# Altium integrated library ON Semi Schottky Diodes & Schottky Rectifiers.IntLib: 755 symbols (part 2 of 17)
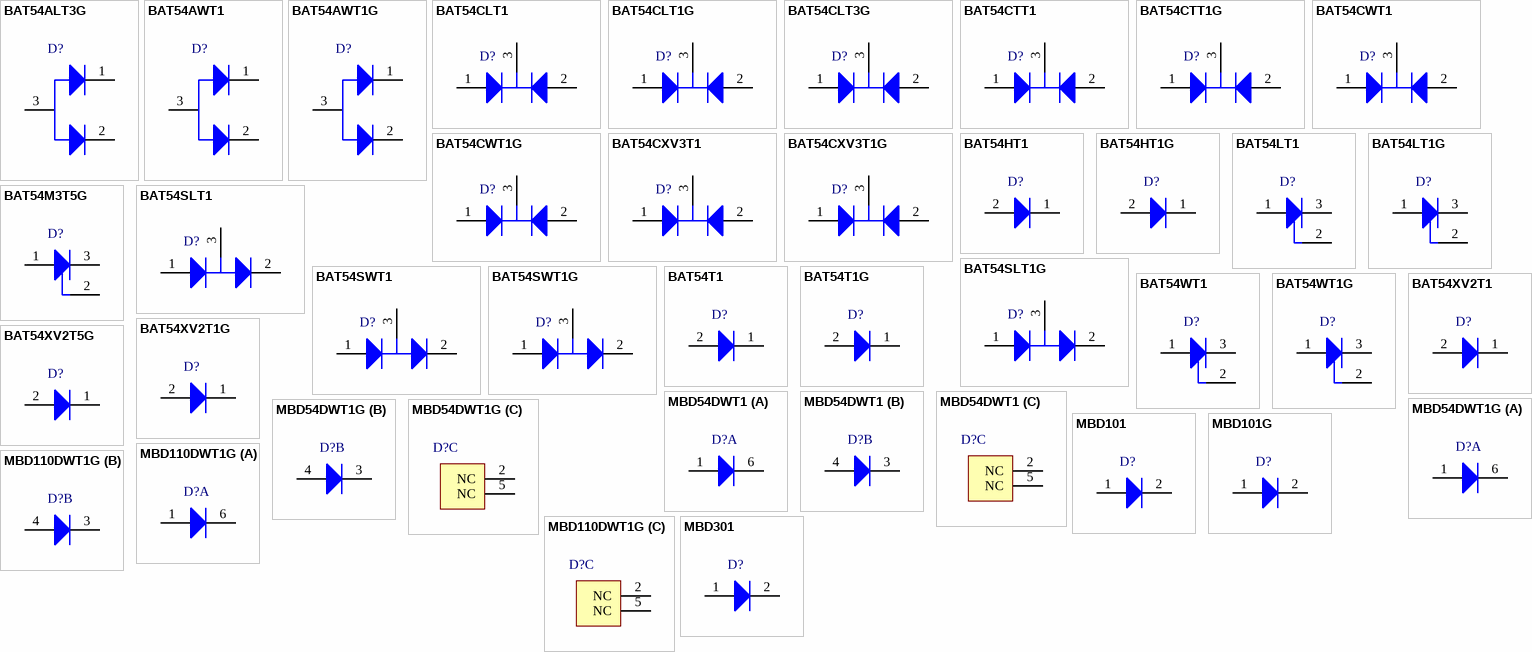
[diagram p20: symbols BAT54ALT3G to MBD301]

## BAT54CTT1G
designator D?
Dual Series Cathode Schottky Barrier Diodes, 3-Pin SC-75, Pb-Free, Tape and Reel; Manufacturer: On Semiconductor; PartNumber: BAT54CTT1G; Configuration: Common Cathode; IFSM Max (A): 0.6; trr Max (ns): 5; DatasheetVersion: Rev. 4; PackageVersion: Rev. F, 07/2005; PackageReference: SC-75-3-463-01; PackageDescription: 3-Pin Small Outline Transistor, Body 1.6 x 0.8 mm, Pitch 0.5 mm; Supplier 1: Digi-Key; Supplier Part Number 1: BAT54CTT1GOSTR-ND; Supplier 2: Digi-Key; Supplier Part Number 2: BAT54CTT1GOSCT-ND; Supplier 3: Digi-Key; Supplier Part Number 3: BAT54CTT1GOSDKR-ND; Supplier 4: Farnell; Supplier Part Number 4: 2369342; Supplier 5: Newark; Supplier Part Number 5: 41K9584; Supplier 6: Newark; Supplier Part Number 6: 10N9691; Supplier 7: Mouser; Supplier Part Number 7: 863-BAT54CTT1G; Packing: Tape and Reel; RoHS: TRUE; Mounting Technology: Surface Mount; ComponentLink1Description: Manufacturer URL; ComponentLink1URL: http://www.onsemi.com/; ComponentLink2Description: Datasheet; ComponentLink2URL: http://www.onsemi.cn/pub_link/Collateral/BAT54CTT1-D.PDF; ComponentLink3Description: Package Specification; ComponentLink3URL: http://www.onsemi.com/pub_link/Collateral/463-01.PDF
footprint ONSC-SC-75-3-463-01_V (SOT23, 3-Leads, Body 1.6x0.8mm, Pitch 0.5mm)
pins: 1 A1, 2 A2, 3 K

## BAT54CWT1
designator D?
Dual Series Cathode Schottky Barrier Diodes, 3-Pin SOT-323, Tape and Reel; Manufacturer: On Semiconductor; PartNumber: BAT54CWT1; Configuration: Common Cathode; IFSM Max (A): 0.6; trr Max (ns): 5; DatasheetVersion: Rev. 7; PackageVersion: Rev. N, 11/2008; PackageReference: SOT-323-3-419-04; PackageDescription: 3-Pin Small Outline Transistor, Body 2 x 1.25 mm, Pitch 0.65 mm; Supplier 1: Digi-Key; Supplier Part Number 1: BAT54CWT1-ND; Packing: Tape and Reel; RoHS: FALSE; Mounting Technology: Surface Mount; ComponentLink1Description: Manufacturer URL; ComponentLink1URL: http://www.onsemi.com/; ComponentLink2Description: Datasheet; ComponentLink2URL: http://www.onsemi.cn/pub_link/Collateral/BAT54CWT1-D.PDF; ComponentLink3Description: Package Specification; ComponentLink3URL: http://www.onsemi.com/pub_link/Collateral/419-04.PDF
footprint ONSC-SOT-323-3-419-04_V (SOT23, 3-Leads, Body 2x1.25mm, Pitch 0.65mm)
pins: 1 A1, 2 A2, 3 K

## BAT54CWT1G
designator D?
Dual Series Cathode Schottky Barrier Diodes, 3-Pin SOT-323, Pb-Free, Tape and Reel; Manufacturer: On Semiconductor; PartNumber: BAT54CWT1G; Configuration: Common Cathode; IFSM Max (A): 0.6; trr Max (ns): 5; DatasheetVersion: Rev. 7; PackageVersion: Rev. N, 11/2008; PackageReference: SOT-323-3-419-04; PackageDescription: 3-Pin Small Outline Transistor, Body 2 x 1.25 mm, Pitch 0.65 mm; Supplier 1: Digi-Key; Supplier Part Number 1: BAT54CWT1GOSTR-ND; Supplier 2: Digi-Key; Supplier Part Number 2: BAT54CWT1GOSCT-ND; Supplier 3: Digi-Key; Supplier Part Number 3: BAT54CWT1GOSDKR-ND; Supplier 4: Farnell; Supplier Part Number 4: 2317420; Supplier 5: Farnell; Supplier Part Number 5: 1885830; Supplier 6: Newark; Supplier Part Number 6: 10N9692; Supplier 7: Newark; Supplier Part Number 7: 45J0561; Supplier 8: Mouser; Supplier Part Number 8: 863-BAT54CWT1G; Packing: Tape and Reel; RoHS: TRUE; Mounting Technology: Surface Mount; ComponentLink1Description: Manufacturer URL; ComponentLink1URL: http://www.onsemi.com/; ComponentLink2Description: Datasheet; ComponentLink2URL: http://www.onsemi.cn/pub_link/Collateral/BAT54CWT1-D.PDF; ComponentLink3Description: Package Specification; ComponentLink3URL: http://www.onsemi.com/pub_link/Collateral/419-04.PDF
footprint ONSC-SOT-323-3-419-04_V (SOT23, 3-Leads, Body 2x1.25mm, Pitch 0.65mm)
pins: 1 A1, 2 A2, 3 K

## BAT54CXV3T1
designator D?
Dual Series Cathode Schottky Barrier Diodes, 3-Pin SC-89, Tape and Reel; Manufacturer: On Semiconductor; PartNumber: BAT54CXV3T1; Configuration: Common Cathode; IFSM Max (A): 0.6; trr Max (ns): 5; DatasheetVersion: Rev. 2; PackageVersion: Rev. C, 07/2003; PackageReference: SC-89-3-463C-02; PackageDescription: 3-Pin Small Outline Transistor, Body 1.6 x 0.85 mm, Pitch 0.5 mm; Supplier 1: Mouser; Supplier Part Number 1: 863-BAT54CXV3T1; Packing: Tape and Reel; RoHS: FALSE; Mounting Technology: Surface Mount; ComponentLink1Description: Manufacturer URL; ComponentLink1URL: http://www.onsemi.com/; ComponentLink2Description: Datasheet; ComponentLink2URL: http://www.onsemi.cn/pub_link/Collateral/BAT54CXV3-D.PDF; ComponentLink3Description: Package Specification; ComponentLink3URL: http://www.onsemi.com/pub_link/Collateral/463C-02.PDF
footprint ONSC-SC-89-3-463C-02_V (SOT23, 3-Leads, Body 1.6x0.85mm, Pitch 0.5mm)
pins: 1 A1, 2 A2, 3 K

## BAT54CXV3T1G
designator D?
Dual Series Cathode Schottky Barrier Diodes, 3-Pin SC-89, Pb-Free, Tape and Reel; Manufacturer: On Semiconductor; PartNumber: BAT54CXV3T1G; Configuration: Common Cathode; IFSM Max (A): 0.6; trr Max (ns): 5; DatasheetVersion: Rev. 2; PackageVersion: Rev. C, 07/2003; PackageReference: SC-89-3-463C-02; PackageDescription: 3-Pin Small Outline Transistor, Body 1.6 x 0.85 mm, Pitch 0.5 mm; Supplier 1: Farnell; Supplier Part Number 1: 1887067; Supplier 2: Newark; Supplier Part Number 2: 09R9362; Supplier 3: Mouser; Supplier Part Number 3: 863-BAT54CXV3T1G; Packing: Tape and Reel; RoHS: TRUE; Mounting Technology: Surface Mount; ComponentLink1Description: Manufacturer URL; ComponentLink1URL: http://www.onsemi.com/; ComponentLink2Description: Datasheet; ComponentLink2URL: http://www.onsemi.cn/pub_link/Collateral/BAT54CXV3-D.PDF; ComponentLink3Description: Package Specification; ComponentLink3URL: http://www.onsemi.com/pub_link/Collateral/463C-02.PDF
footprint ONSC-SC-89-3-463C-02_V (SOT23, 3-Leads, Body 1.6x0.85mm, Pitch 0.5mm)
pins: 1 A1, 2 A2, 3 K

## BAT54HT1
designator D?
Schottky Barrier Diode, 2-Pin SOD-323, Tape and Reel; Manufacturer: On Semiconductor; PartNumber: BAT54HT1; Configuration: Single; IFSM Max (A): 0.6; trr Max (ns): 5; DatasheetVersion: Rev. 6; PackageVersion: Rev. H, 03/2007; PackageReference: SOD-323-2-477-02; PackageDescription: 2-Pin SOD, Body 1.7 x 1.25 mm; Supplier 1: Digi-Key; Supplier Part Number 1: BAT54HT1OSCT-ND; Packing: Tape and Reel; RoHS: TRUE; Mounting Technology: Surface Mount; ComponentLink1Description: Manufacturer URL; ComponentLink1URL: http://www.onsemi.com/; ComponentLink2Description: Datasheet; ComponentLink2URL: http://www.onsemi.cn/pub_link/Collateral/BAT54HT1-D.PDF; ComponentLink3Description: Package Specification; ComponentLink3URL: http://www.onsemi.com/pub_link/Collateral/477-02.PDF.1
footprint ONSC-SOD-323-2-477-02_V (SOD, 2-Leads, Body 1.7x1.25mm)
pins: 1 K, 2 A

## BAT54HT1G
designator D?
Schottky Barrier Diode, 2-Pin SOD-323, Pb-Free, Tape and Reel; Manufacturer: On Semiconductor; PartNumber: BAT54HT1G; Configuration: Single; IFSM Max (A): 0.6; trr Max (ns): 5; DatasheetVersion: Rev. 6; PackageVersion: Rev. H, 03/2007; PackageReference: SOD-323-2-477-02; PackageDescription: 2-Pin SOD, Body 1.7 x 1.25 mm; Supplier 1: Digi-Key; Supplier Part Number 1: BAT54HT1GOSTR-ND; Supplier 2: Digi-Key; Supplier Part Number 2: BAT54HT1GOSCT-ND; Supplier 3: Digi-Key; Supplier Part Number 3: BAT54HT1GOSDKR-ND; Supplier 4: Farnell; Supplier Part Number 4: 1459033RL; Supplier 5: Farnell; Supplier Part Number 5: 1459033; Supplier 6: Newark; Supplier Part Number 6: 83K0937; Supplier 7: Newark; Supplier Part Number 7: 83H6419; Supplier 8: Newark; Supplier Part Number 8: 28X7207; Supplier 9: Mouser; Supplier Part Number 9: 863-BAT54HT1G; Packing: Tape and Reel; RoHS: TRUE; Mounting Technology: Surface Mount; ComponentLink1Description: Manufacturer URL; ComponentLink1URL: http://www.onsemi.com/; ComponentLink2Description: Datasheet; ComponentLink2URL: http://www.onsemi.cn/pub_link/Collateral/BAT54HT1-D.PDF; ComponentLink3Description: Package Specification; ComponentLink3URL: http://www.onsemi.com/pub_link/Collateral/477-02.PDF.1
footprint ONSC-SOD-323-2-477-02_V (SOD, 2-Leads, Body 1.7x1.25mm)
pins: 1 K, 2 A

## BAT54LT1
designator D?
Schottky Barrier Diode, 3-Pin SOT-23, Tape and Reel; Manufacturer: On Semiconductor; PartNumber: BAT54LT1; Configuration: Single; IFSM Max (A): 0.6; trr Max (ns): 5; DatasheetVersion: Rev. 12; PackageVersion: Rev. AP, 11/2009; PackageReference: SOT-23-3-318-08; PackageDescription: 3-Pin Small Outline Transistor, Body 2.92 x 1.3 mm, Pitch 0.95 mm; Supplier 1: Digi-Key; Supplier Part Number 1: BAT54LT1OSCT-ND; Packing: Tape and Reel; RoHS: FALSE; Mounting Technology: Surface Mount; ComponentLink1Description: Manufacturer URL; ComponentLink1URL: http://www.onsemi.com/; ComponentLink2Description: Datasheet; ComponentLink2URL: http://www.onsemi.cn/pub_link/Collateral/BAT54LT1-D.PDF; ComponentLink3Description: Package Specification; ComponentLink3URL: http://www.onsemi.cn/pub_link/Collateral/318-08.PDF
footprint ONSC-SOT-23-3-318-08_V (SOT23, 3-Leads, Body 2.92x1.3mm, Pitch 0.95mm)
pins: 1 A, 2 NC, 3 K

## BAT54LT1G
designator D?
Schottky Barrier Diode, 3-Pin SOT-23, Pb-Free, Tape and Reel; Manufacturer: On Semiconductor; PartNumber: BAT54LT1G; Configuration: Single; IFSM Max (A): 0.6; trr Max (ns): 5; DatasheetVersion: Rev. 12; PackageVersion: Rev. AP, 11/2009; PackageReference: SOT-23-3-318-08; PackageDescription: 3-Pin Small Outline Transistor, Body 2.92 x 1.3 mm, Pitch 0.95 mm; Supplier 1: Digi-Key; Supplier Part Number 1: BAT54LT1GOSTR-ND; Supplier 2: Digi-Key; Supplier Part Number 2: BAT54LT1GOSCT-ND; Supplier 3: Digi-Key; Supplier Part Number 3: BAT54LT1GOSDKR-ND; Supplier 4: Farnell; Supplier Part Number 4: 1431113; Supplier 5: Farnell; Supplier Part Number 5: 1431113RL; Supplier 6: Farnell; Supplier Part Number 6: 2370805; Supplier 7: Newark; Supplier Part Number 7: 67R1281; Supplier 8: Newark; Supplier Part Number 8: 88H4553; Supplier 9: Mouser; Supplier Part Number 9: 863-BAT54LT1G; Packing: Tape and Reel; RoHS: TRUE; Mounting Technology: Surface Mount; ComponentLink1Description: Manufacturer URL; ComponentLink1URL: http://www.onsemi.com/; ComponentLink2Description: Datasheet; ComponentLink2URL: http://www.onsemi.cn/pub_link/Collateral/BAT54LT1-D.PDF; ComponentLink3Description: Package Specification; ComponentLink3URL: http://www.onsemi.cn/pub_link/Collateral/318-08.PDF
footprint ONSC-SOT-23-3-318-08_V (SOT23, 3-Leads, Body 2.92x1.3mm, Pitch 0.95mm)
pins: 1 A, 2 NC, 3 K

## BAT54M3T5G
designator D?
Schottky Barrier Diode, 3-Pin SOT-723, Pb-Free, Tape and Reel; Manufacturer: On Semiconductor; PartNumber: BAT54M3T5G; Configuration: Single; IFSM Max (A): 0.6; trr Max (ns): 5; DatasheetVersion: Rev. 0; PackageVersion: Rev. C, 08/2006; PackageReference: SOT-723-3-631AA-01_C; PackageDescription: 3-Pin SOT223, Body 0.8 x 1.2 mm, Pitch 0.4 mm; Supplier 1: Newark; Supplier Part Number 1: 05R9023; Supplier 2: Mouser; Supplier Part Number 2: 863-BAT54M3T5G; Packing: Tape and Reel; RoHS: TRUE; Mounting Technology: Surface Mount; ComponentLink1Description: Manufacturer URL; ComponentLink1URL: http://www.onsemi.com/; ComponentLink2Description: Datasheet; ComponentLink2URL: http://www.onsemi.cn/pub_link/Collateral/BAT54M3-D.PDF; ComponentLink3Description: Package Specification; ComponentLink3URL: http://www.onsemi.cn/pub_link/Collateral/BAT54M3-D.PDF
footprint ONSC-SOT-723-3-631AA-01_C_V (SOT23, 3-Leads, Body 1.25x0.85mm, Pitch 0.4mm)
pins: 1 A, 2 NC, 3 K

## BAT54SLT1
designator D?
Dual Series Schottky Barrier Diodes, 3-Pin SOT-23, Tape and Reel; Manufacturer: On Semiconductor; PartNumber: BAT54SLT1; IFSM Max (A): 0.6; trr Max (ns): 5; DatasheetVersion: Rev. 15; PackageVersion: Rev. AP, 11/2009; PackageReference: SOT-23-3-318-08; PackageDescription: 3-Pin Small Outline Transistor, Body 2.92 x 1.3 mm, Pitch 0.95 mm; Supplier 1: Digi-Key; Supplier Part Number 1: BAT54SLT1OSCT-ND; Configuration: Dual; Packing: Tape and Reel; RoHS: FALSE; Mounting Technology: Surface Mount; ComponentLink1Description: Manufacturer URL; ComponentLink1URL: http://www.onsemi.com/; ComponentLink2Description: Datasheet; ComponentLink2URL: http://www.onsemi.cn/pub_link/Collateral/BAT54SLT1-D.PDF; ComponentLink3Description: Package Specification; ComponentLink3URL: http://www.onsemi.cn/pub_link/Collateral/318-08.PDF
footprint ONSC-SOT-23-3-318-08_V (SOT23, 3-Leads, Body 2.92x1.3mm, Pitch 0.95mm)
pins: 1 A, 2 K, 3 K/A

## BAT54SLT1G
designator D?
Dual Series Schottky Barrier Diodes, 3-Pin SOT-23, Pb-Free, Tape and Reel; Manufacturer: On Semiconductor; PartNumber: BAT54SLT1G; IFSM Max (A): 0.6; trr Max (ns): 5; DatasheetVersion: Rev. 15; PackageVersion: Rev. AP, 11/2009; PackageReference: SOT-23-3-318-08; PackageDescription: 3-Pin Small Outline Transistor, Body 2.92 x 1.3 mm, Pitch 0.95 mm; Supplier 1: Farnell; Supplier Part Number 1: 1431114; Supplier 2: Farnell; Supplier Part Number 2: 1431114RL; Supplier 3: Farnell; Supplier Part Number 3: 2317668; Supplier 4: Newark; Supplier Part Number 4: 67R1282; Supplier 5: Newark; Supplier Part Number 5: 83H6420; Supplier 6: Mouser; Supplier Part Number 6: 863-BAT54SLT1G; Configuration: Dual; Packing: Tape and Reel; RoHS: TRUE; Mounting Technology: Surface Mount; ComponentLink1Description: Manufacturer URL; ComponentLink1URL: http://www.onsemi.com/; ComponentLink2Description: Datasheet; ComponentLink2URL: http://www.onsemi.cn/pub_link/Collateral/BAT54SLT1-D.PDF; ComponentLink3Description: Package Specification; ComponentLink3URL: http://www.onsemi.cn/pub_link/Collateral/318-08.PDF
footprint ONSC-SOT-23-3-318-08_V (SOT23, 3-Leads, Body 2.92x1.3mm, Pitch 0.95mm)
pins: 1 A, 2 K, 3 K/A

## BAT54SWT1
designator D?
Dual Series Schottky Barrier Diodes, 3-Pin SOT-323, Tape and Reel; Manufacturer: On Semiconductor; PartNumber: BAT54SWT1; IFSM Max (A): 0.6; trr Max (ns): 5; DatasheetVersion: Rev. 10; PackageVersion: Rev. N, 11/2008; PackageReference: SOT-323-3-419-04; PackageDescription: 3-Pin Small Outline Transistor, Body 2 x 1.25 mm, Pitch 0.65 mm; Supplier 1: Digi-Key; Supplier Part Number 1: BAT54SWT1OSCT-ND; Configuration: Dual; Packing: Tape and Reel; RoHS: FALSE; Mounting Technology: Surface Mount; ComponentLink1Description: Manufacturer URL; ComponentLink1URL: http://www.onsemi.com/; ComponentLink2Description: Datasheet; ComponentLink2URL: http://www.onsemi.cn/pub_link/Collateral/BAT54SWT1-D.PDF; ComponentLink3Description: Package Specification; ComponentLink3URL: http://www.onsemi.com/pub_link/Collateral/419-04.PDF
footprint ONSC-SOT-323-3-419-04_V (SOT23, 3-Leads, Body 2x1.25mm, Pitch 0.65mm)
pins: 1 A, 2 K, 3 K/A

## BAT54SWT1G
designator D?
Dual Series Schottky Barrier Diodes, 3-Pin SOT-323, Pb-Free, Tape and Reel; Manufacturer: On Semiconductor; PartNumber: BAT54SWT1G; IFSM Max (A): 0.6; trr Max (ns): 5; DatasheetVersion: Rev. 10; PackageVersion: Rev. N, 11/2008; PackageReference: SOT-323-3-419-04; PackageDescription: 3-Pin Small Outline Transistor, Body 2 x 1.25 mm, Pitch 0.65 mm; Supplier 1: Digi-Key; Supplier Part Number 1: BAT54SWT1GOSTR-ND; Supplier 2: Digi-Key; Supplier Part Number 2: BAT54SWT1GOSCT-ND; Supplier 3: Digi-Key; Supplier Part Number 3: BAT54SWT1GOSDKR-ND; Supplier 4: Farnell; Supplier Part Number 4: 2101837; Supplier 5: Farnell; Supplier Part Number 5: 2317673; Supplier 6: Farnell; Supplier Part Number 6: 1155673; Supplier 7: Newark; Supplier Part Number 7: 67R1283; Supplier 8: Newark; Supplier Part Number 8: 83H6421; Supplier 9: Mouser; Supplier Part Number 9: 863-BAT54SWT1G; Configuration: Dual; Packing: Tape and Reel; RoHS: TRUE; Mounting Technology: Surface Mount; ComponentLink1Description: Manufacturer URL; ComponentLink1URL: http://www.onsemi.com/; ComponentLink2Description: Datasheet; ComponentLink2URL: http://www.onsemi.cn/pub_link/Collateral/BAT54SWT1-D.PDF; ComponentLink3Description: Package Specification; ComponentLink3URL: http://www.onsemi.com/pub_link/Collateral/419-04.PDF
footprint ONSC-SOT-323-3-419-04_V (SOT23, 3-Leads, Body 2x1.25mm, Pitch 0.65mm)
pins: 1 A, 2 K, 3 K/A

## BAT54T1
designator D?
Schottky Barrier Diode, 2-Pin SOD-123, Tape and Reel; Manufacturer: On Semiconductor; PartNumber: BAT54T1; Configuration: Single; IFSM Max (A): 0.6; trr Max (ns): 5; DatasheetVersion: Rev. 9; PackageVersion: Rev. G, 10/2009; PackageReference: SOD-123-2-425-04; PackageDescription: 2-Pin SOD, Body 1.6 x 2.69 mm; Supplier 1: Digi-Key; Supplier Part Number 1: BAT54T1OSCT-ND; Packing: Tape and Reel; RoHS: FALSE; Mounting Technology: Surface Mount; ComponentLink1Description: Manufacturer URL; ComponentLink1URL: http://www.onsemi.com/; ComponentLink2Description: Datasheet; ComponentLink2URL: http://www.onsemi.cn/pub_link/Collateral/BAT54T1-D.PDF; ComponentLink3Description: Package Specification; ComponentLink3URL: http://www.onsemi.com/pub_link/Collateral/425-04.PDF
footprint ONSC-SOD-123-2-425-04_V (SOD, 2-Leads, Body 2.69x1.6mm)
pins: 1 K, 2 A

## BAT54T1G
designator D?
Schottky Barrier Diode, 2-Pin SOD-123, Pb-Free, Tape and Reel; Manufacturer: On Semiconductor; PartNumber: BAT54T1G; Configuration: Single; IFSM Max (A): 0.6; trr Max (ns): 5; DatasheetVersion: Rev. 9; PackageVersion: Rev. G, 10/2009; PackageReference: SOD-123-2-425-04; PackageDescription: 2-Pin SOD, Body 1.6 x 2.69 mm; Supplier 1: Digi-Key; Supplier Part Number 1: BAT54T1GOSTR-ND; Supplier 2: Digi-Key; Supplier Part Number 2: BAT54T1GOSCT-ND; Supplier 3: Digi-Key; Supplier Part Number 3: BAT54T1GOSDKR-ND; Supplier 4: Farnell; Supplier Part Number 4: 1651157RL; Supplier 5: Farnell; Supplier Part Number 5: 1651157; Supplier 6: Farnell; Supplier Part Number 6: 2364774; Supplier 7: Newark; Supplier Part Number 7: 67R1284; Supplier 8: Newark; Supplier Part Number 8: 88H4554; Supplier 9: Mouser; Supplier Part Number 9: 863-BAT54T1G; Packing: Tape and Reel; RoHS: TRUE; Mounting Technology: Surface Mount; ComponentLink1Description: Manufacturer URL; ComponentLink1URL: http://www.onsemi.com/; ComponentLink2Description: Datasheet; ComponentLink2URL: http://www.onsemi.cn/pub_link/Collateral/BAT54T1-D.PDF; ComponentLink3Description: Package Specification; ComponentLink3URL: http://www.onsemi.com/pub_link/Collateral/425-04.PDF
footprint ONSC-SOD-123-2-425-04_V (SOD, 2-Leads, Body 2.69x1.6mm)
pins: 1 K, 2 A

## BAT54WT1
designator D?
Schottky Barrier Diode, 3-Pin SOT-323, Tape and Reel; Manufacturer: On Semiconductor; PartNumber: BAT54WT1; Configuration: Single; IFSM Max (A): 0.6; trr Max (ns): 5; DatasheetVersion: Rev. 10; PackageVersion: Rev. N, 11/2008; PackageReference: SOT-323-3-419-04; PackageDescription: 3-Pin Small Outline Transistor, Body 2 x 1.25 mm, Pitch 0.65 mm; Supplier 1: Digi-Key; Supplier Part Number 1: BAT54WT1OSCT-ND; Packing: Tape and Reel; RoHS: FALSE; Mounting Technology: Surface Mount; ComponentLink1Description: Manufacturer URL; ComponentLink1URL: http://www.onsemi.com/; ComponentLink2Description: Datasheet; ComponentLink2URL: http://www.onsemi.cn/pub_link/Collateral/BAT54WT1-D.PDF; ComponentLink3Description: Package Specification; ComponentLink3URL: http://www.onsemi.com/pub_link/Collateral/419-04.PDF
footprint ONSC-SOT-323-3-419-04_V (SOT23, 3-Leads, Body 2x1.25mm, Pitch 0.65mm)
pins: 1 A, 2 NC, 3 K

## BAT54WT1G
designator D?
Schottky Barrier Diode, 3-Pin SOT-323, Pb-Free, Tape and Reel; Manufacturer: On Semiconductor; PartNumber: BAT54WT1G; Configuration: Single; IFSM Max (A): 0.6; trr Max (ns): 5; DatasheetVersion: Rev. 10; PackageVersion: Rev. N, 11/2008; PackageReference: SOT-323-3-419-04; PackageDescription: 3-Pin Small Outline Transistor, Body 2 x 1.25 mm, Pitch 0.65 mm; Supplier 1: Digi-Key; Supplier Part Number 1: BAT54WT1GOSTR-ND; Supplier 2: Digi-Key; Supplier Part Number 2: BAT54WT1GOSCT-ND; Supplier 3: Digi-Key; Supplier Part Number 3: BAT54WT1GOSDKR-ND; Supplier 4: Farnell; Supplier Part Number 4: 1155774; Supplier 5: Newark; Supplier Part Number 5: 98H0499; Supplier 6: Mouser; Supplier Part Number 6: 863-BAT54WT1G; Packing: Tape and Reel; RoHS: TRUE; Mounting Technology: Surface Mount; ComponentLink1Description: Manufacturer URL; ComponentLink1URL: http://www.onsemi.com/; ComponentLink2Description: Datasheet; ComponentLink2URL: http://www.onsemi.cn/pub_link/Collateral/BAT54WT1-D.PDF; ComponentLink3Description: Package Specification; ComponentLink3URL: http://www.onsemi.com/pub_link/Collateral/419-04.PDF
footprint ONSC-SOT-323-3-419-04_V (SOT23, 3-Leads, Body 2x1.25mm, Pitch 0.65mm)
pins: 1 A, 2 NC, 3 K

## BAT54XV2T1
designator D?
Schottky Barrier Diode, 2-Pin SOD-523, Tape and Reel; Manufacturer: On Semiconductor; PartNumber: BAT54XV2T1; Configuration: Single; IFSM Max (A): 0.6; trr Max (ns): 5; DatasheetVersion: Rev. 8; PackageVersion: Rev. E, 09/2010; PackageReference: SOD-523-2-502-01; PackageDescription: 2-Pin SOD, Body 1.2 x 0.8 mm; Supplier 1: Mouser; Supplier Part Number 1: 863-BAT54XV2T1; Packing: Tape and Reel; RoHS: FALSE; Mounting Technology: Surface Mount; ComponentLink1Description: Manufacturer URL; ComponentLink1URL: http://www.onsemi.com/; ComponentLink2Description: Datasheet; ComponentLink2URL: http://www.onsemi.cn/pub_link/Collateral/BAT54XV2T1-D.PDF; ComponentLink3Description: Package Specification; ComponentLink3URL: http://www.onsemi.com/pub_link/Collateral/502-01.PDF
footprint ONSC-SOD-523-2-502-01_V (SOD, 2-Leads, Body 1.2x0.8mm)
pins: 1 K, 2 A

## BAT54XV2T1G
designator D?
Schottky Barrier Diode, 2-Pin SOD-523, Pb-Free, Tape and Reel; Manufacturer: On Semiconductor; PartNumber: BAT54XV2T1G; Configuration: Single; IFSM Max (A): 0.6; trr Max (ns): 5; DatasheetVersion: Rev. 8; PackageVersion: Rev. E, 09/2010; PackageReference: SOD-523-2-502-01; PackageDescription: 2-Pin SOD, Body 1.2 x 0.8 mm; Supplier 1: Farnell; Supplier Part Number 1: 2317659; Supplier 2: Farnell; Supplier Part Number 2: 1459034RL; Supplier 3: Farnell; Supplier Part Number 3: 1459034; Supplier 4: Newark; Supplier Part Number 4: 41K9586; Supplier 5: Newark; Supplier Part Number 5: 46M4868; Supplier 6: Mouser; Supplier Part Number 6: 863-BAT54XV2T1G; Packing: Tape and Reel; RoHS: TRUE; Mounting Technology: Surface Mount; ComponentLink1Description: Manufacturer URL; ComponentLink1URL: http://www.onsemi.com/; ComponentLink2Description: Datasheet; ComponentLink2URL: http://www.onsemi.cn/pub_link/Collateral/BAT54XV2T1-D.PDF; ComponentLink3Description: Package Specification; ComponentLink3URL: http://www.onsemi.com/pub_link/Collateral/502-01.PDF
footprint ONSC-SOD-523-2-502-01_V (SOD, 2-Leads, Body 1.2x0.8mm)
pins: 1 K, 2 A

## BAT54XV2T5G
designator D?
Schottky Barrier Diode, 2-Pin SOD-523, Pb-Free, Tape and Reel; Manufacturer: On Semiconductor; PartNumber: BAT54XV2T5G; Configuration: Single; IFSM Max (A): 0.6; trr Max (ns): 5; DatasheetVersion: Rev. 8; PackageVersion: Rev. E, 09/2010; PackageReference: SOD-523-2-502-01; PackageDescription: 2-Pin SOD, Body 1.2 x 0.8 mm; Supplier 1: Newark; Supplier Part Number 1: 50M1995; Supplier 2: Mouser; Supplier Part Number 2: 863-BAT54XV2T5G; Packing: Tape and Reel; RoHS: TRUE; Mounting Technology: Surface Mount; ComponentLink1Description: Manufacturer URL; ComponentLink1URL: http://www.onsemi.com/; ComponentLink2Description: Datasheet; ComponentLink2URL: http://www.onsemi.cn/pub_link/Collateral/BAT54XV2T1-D.PDF; ComponentLink3Description: Package Specification; ComponentLink3URL: http://www.onsemi.com/pub_link/Collateral/502-01.PDF
footprint ONSC-SOD-523-2-502-01_V (SOD, 2-Leads, Body 1.2x0.8mm)
pins: 1 K, 2 A

## MBD54DWT1
designator D?
Dual Schottky Barrier Diodes, 6-Pin SOT-363, Tape and Reel; Manufacturer: On Semiconductor; PartNumber: MBD54DWT1; IFSM Max (A): 0.6; trr Max (ns): 5; DatasheetVersion: Rev. 7; PackageVersion: Rev. W, 01/2006; PackageReference: SOT-363-6-419B-02_W; PackageDescription: 6-Pin Small Outline Transistor, Body 2 x 1.25 mm, Pitch 0.65 mm; Supplier 1: Digi-Key; Supplier Part Number 1: MBD54DWT1OSCT-ND; Configuration: Dual; Packing: Tape and Reel; RoHS: FALSE; Mounting Technology: Surface Mount; ComponentLink1Description: Manufacturer URL; ComponentLink1URL: http://www.onsemi.com/; ComponentLink2Description: Datasheet; ComponentLink2URL: http://www.onsemi.cn/pub_link/Collateral/MBD54DWT1-D.PDF; ComponentLink3Description: Package Specification; ComponentLink3URL: http://www.onsemi.com/pub_link/Collateral/NTJD4001N-D.PDF
footprint ONSC-SOT-363-6-419B-02_W_V (SOT23, 6-Leads, Body 2x1.25mm, Pitch 0.65mm)
part A pins: 1 A2, 6 K2
part B pins: 3 K1, 4 A1
part C pins: 2 NC, 5 NC

## MBD54DWT1G
designator D?
Dual Schottky Barrier Diodes, 6-Pin SOT-363, Pb-Free, Tape and Reel; Manufacturer: On Semiconductor; PartNumber: MBD54DWT1G; IFSM Max (A): 0.6; trr Max (ns): 5; DatasheetVersion: Rev. 7; PackageVersion: Rev. W, 01/2006; PackageReference: SOT-363-6-419B-02_W; PackageDescription: 6-Pin Small Outline Transistor, Body 2 x 1.25 mm, Pitch 0.65 mm; Supplier 1: Digi-Key; Supplier Part Number 1: MBD54DWT1GOSTR-ND; Supplier 2: Digi-Key; Supplier Part Number 2: MBD54DWT1GOSCT-ND; Supplier 3: Digi-Key; Supplier Part Number 3: MBD54DWT1GOSDKR-ND; Supplier 4: Farnell; Supplier Part Number 4: 1651123RL; Supplier 5: Farnell; Supplier Part Number 5: 1651123; Supplier 6: Newark; Supplier Part Number 6: 26K3670; Supplier 7: Mouser; Supplier Part Number 7: 863-MBD54DWT1G; Configuration: Dual; Packing: Tape and Reel; RoHS: TRUE; Mounting Technology: Surface Mount; ComponentLink1Description: Manufacturer URL; ComponentLink1URL: http://www.onsemi.com/; ComponentLink2Description: Datasheet; ComponentLink2URL: http://www.onsemi.cn/pub_link/Collateral/MBD54DWT1-D.PDF; ComponentLink3Description: Package Specification; ComponentLink3URL: http://www.onsemi.com/pub_link/Collateral/NTJD4001N-D.PDF
footprint ONSC-SOT-363-6-419B-02_W_V (SOT23, 6-Leads, Body 2x1.25mm, Pitch 0.65mm)
part A pins: 1 A2, 6 K2
part B pins: 3 K1, 4 A1
part C pins: 2 NC, 5 NC

## MBD101
designator D?
Schottky Barrier Diode, 2-Pin TO-92, Bulk Box; Manufacturer: On Semiconductor; PartNumber: MBD101; Configuration: Single; DatasheetVersion: Rev. 3; PackageVersion: Rev. L, 04/1998; PackageReference: TO-92-2-182-06; PackageDescription: 2-Pin Transistor Outline, Body 4.825 x 3.685 mm, Pitch 2.54 mm; Supplier 1: Digi-Key; Supplier Part Number 1: MBD101-ND; Supplier 2: Mouser; Supplier Part Number 2: 863-MBD101; Packing: Bulk Box; RoHS: FALSE; Mounting Technology: Through Hole; ComponentLink1Description: Manufacturer URL; ComponentLink1URL: http://www.onsemi.com/; ComponentLink2Description: Datasheet; ComponentLink2URL: http://www.onsemi.cn/pub_link/Collateral/MBD101-D.PDF; ComponentLink3Description: Package Specification; ComponentLink3URL: http://www.onsemi.com/pub_link/Collateral/182-06.PDF
footprint ONSC-TO-92-2-182-06 (TO, 2-Leads, Body Dia 4.69mm, Pitch 2.54mm)
pins: 1 A, 2 K

## MBD101G
designator D?
Schottky Barrier Diode, 2-Pin TO-92, Pb-Free, Bulk Box; Manufacturer: On Semiconductor; PartNumber: MBD101G; Configuration: Single; DatasheetVersion: Rev. 3; PackageVersion: Rev. L, 04/1998; PackageReference: TO-92-2-182-06; PackageDescription: 2-Pin Transistor Outline, Body 4.825 x 3.685 mm, Pitch 2.54 mm; Supplier 1: Digi-Key; Supplier Part Number 1: MBD101G-ND; Supplier 2: Mouser; Supplier Part Number 2: 863-MBD101G; Packing: Bulk Box; RoHS: TRUE; Mounting Technology: Through Hole; ComponentLink1Description: Manufacturer URL; ComponentLink1URL: http://www.onsemi.com/; ComponentLink2Description: Datasheet; ComponentLink2URL: http://www.onsemi.cn/pub_link/Collateral/MBD101-D.PDF; ComponentLink3Description: Package Specification; ComponentLink3URL: http://www.onsemi.com/pub_link/Collateral/182-06.PDF
footprint ONSC-TO-92-2-182-06 (TO, 2-Leads, Body Dia 4.69mm, Pitch 2.54mm)
pins: 1 A, 2 K

## MBD110DWT1G
designator D?
Dual Schottky Barrier Diodes, 6-Pin SOT-363, Pb-Free, Tape and Reel; Manufacturer: On Semiconductor; PartNumber: MBD110DWT1G; DatasheetVersion: Rev. 8; PackageVersion: Rev. W, 01/2006; PackageReference: SOT-363-6-419B-02_W; PackageDescription: 6-Pin Small Outline Transistor, Body 2 x 1.25 mm, Pitch 0.65 mm; Supplier 1: Mouser; Supplier Part Number 1: 863-MBD110DWT1G; Configuration: Dual; Packing: Tape and Reel; RoHS: TRUE; Mounting Technology: Surface Mount; ComponentLink1Description: Manufacturer URL; ComponentLink1URL: http://www.onsemi.com/; ComponentLink2Description: Datasheet; ComponentLink2URL: http://www.onsemi.cn/pub_link/Collateral/MBD110DWT1-D.PDF; ComponentLink3Description: Package Specification; ComponentLink3URL: http://www.onsemi.com/pub_link/Collateral/NTJD4001N-D.PDF
footprint ONSC-SOT-363-6-419B-02_W_V (SOT23, 6-Leads, Body 2x1.25mm, Pitch 0.65mm)
part A pins: 1 A2, 6 K2
part B pins: 3 K1, 4 A1
part C pins: 2 NC, 5 NC

## MBD301
designator D?
Silicon Hot-Carrier Diode, Schottky Barrier Diode, 2-Pin TO-92, Bulk Box; Manufacturer: On Semiconductor; PartNumber: MBD301; Note: 0; Configuration: Single; DatasheetVersion: Rev. 7; PackageVersion: Rev. L, 04/1998; PackageReference: TO-92-2-182-06; PackageDescription: 2-Pin Transistor Outline, Body 4.825 x 3.685 mm, Pitch 2.54 mm; Packing: Bulk Box; RoHS: FALSE; Mounting Technology: Through Hole; ComponentLink1Description: Manufacturer URL; ComponentLink1URL: http://www.onsemi.com/; ComponentLink2Description: Datasheet; ComponentLink2URL: http://www.onsemi.cn/pub_link/Collateral/MBD301-D.PDF; ComponentLink3Description: Package Specification; ComponentLink3URL: http://www.onsemi.com/pub_link/Collateral/182-06.PDF
footprint ONSC-TO-92-2-182-06 (TO, 2-Leads, Body Dia 4.69mm, Pitch 2.54mm)
pins: 1 A, 2 K

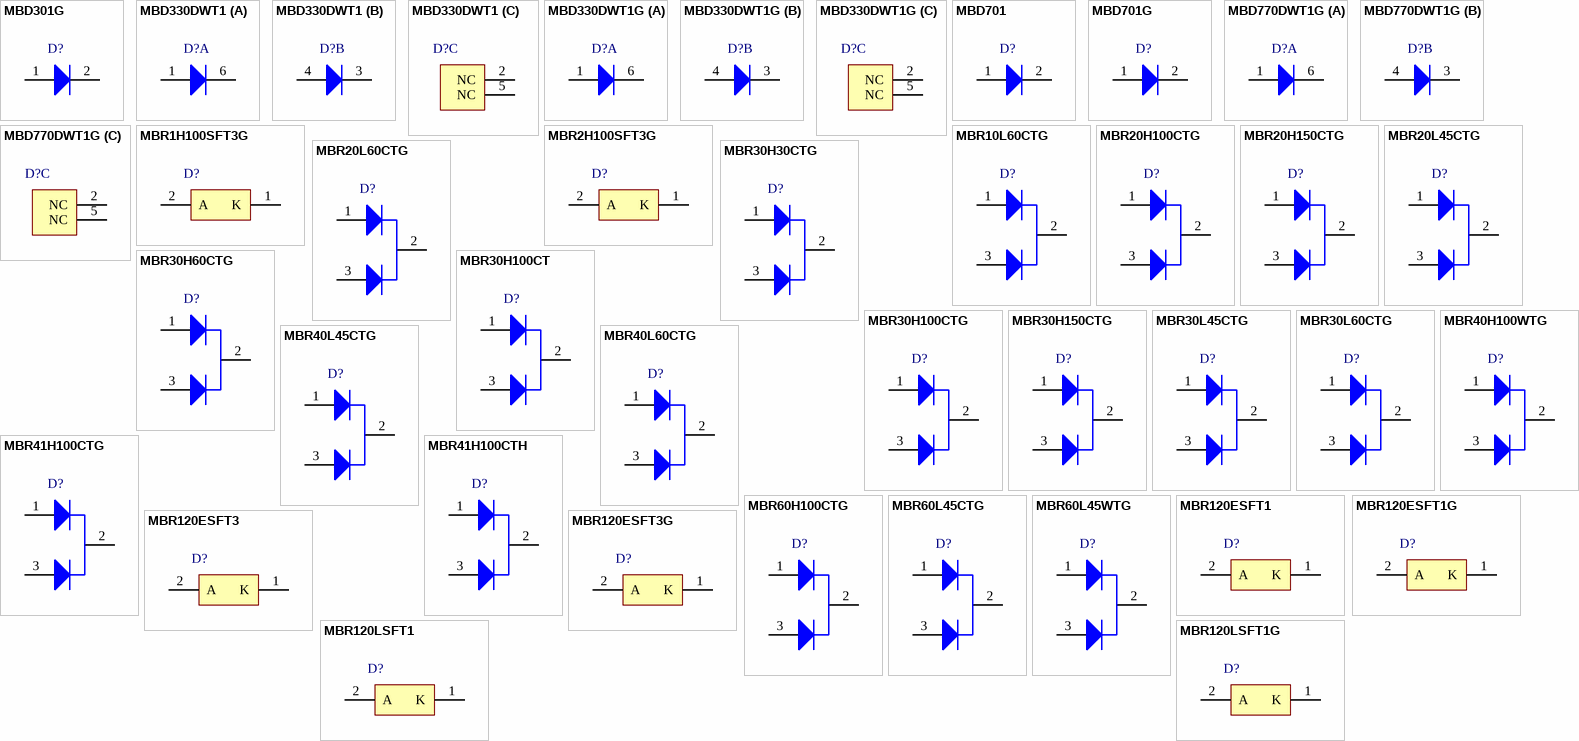
[diagram p2: symbols MBD301G to MBR120LSFT1G]

## MBD301G
designator D?
Silicon Hot-Carrier Diode, Schottky Barrier Diode, 2-Pin TO-92, Pb-Free, Bulk Box; Manufacturer: On Semiconductor; PartNumber: MBD301G; Configuration: Single; DatasheetVersion: Rev. 7; PackageVersion: Rev. L, 04/1998; PackageReference: TO-92-2-182-06; PackageDescription: 2-Pin Transistor Outline, Body 4.825 x 3.685 mm, Pitch 2.54 mm; Supplier 1: Newark; Supplier Part Number 1: 26K3669; Supplier 2: Mouser; Supplier Part Number 2: 863-MBD301G; Packing: Bulk Box; RoHS: TRUE; Mounting Technology: Through Hole; ComponentLink1Description: Manufacturer URL; ComponentLink1URL: http://www.onsemi.com/; ComponentLink2Description: Datasheet; ComponentLink2URL: http://www.onsemi.cn/pub_link/Collateral/MBD301-D.PDF; ComponentLink3Description: Package Specification; ComponentLink3URL: http://www.onsemi.com/pub_link/Collateral/182-06.PDF
footprint ONSC-TO-92-2-182-06 (TO, 2-Leads, Body Dia 4.69mm, Pitch 2.54mm)
pins: 1 A, 2 K

## MBD330DWT1
designator D?
Dual Schottky Barrier Diodes, 6-Pin SOT-363, Tape and Reel; Manufacturer: On Semiconductor; PartNumber: MBD330DWT1; Note: 0; DatasheetVersion: Rev. 8; PackageVersion: Rev. W, 01/2006; PackageReference: SOT-363-6-419B-02_W; PackageDescription: 6-Pin Small Outline Transistor, Body 2 x 1.25 mm, Pitch 0.65 mm; Configuration: Dual; Packing: Tape and Reel; RoHS: FALSE; Mounting Technology: Surface Mount; ComponentLink1Description: Manufacturer URL; ComponentLink1URL: http://www.onsemi.com/; ComponentLink2Description: Datasheet; ComponentLink2URL: http://www.onsemi.cn/pub_link/Collateral/MBD110DWT1-D.PDF; ComponentLink3Description: Package Specification; ComponentLink3URL: http://www.onsemi.com/pub_link/Collateral/NTJD4001N-D.PDF
footprint ONSC-SOT-363-6-419B-02_W_V (SOT23, 6-Leads, Body 2x1.25mm, Pitch 0.65mm)
part A pins: 1 A2, 6 K2
part B pins: 3 K1, 4 A1
part C pins: 2 NC, 5 NC

## MBD330DWT1G
designator D?
Dual Schottky Barrier Diodes, 6-Pin SOT-363, Pb-Free, Tape and Reel; Manufacturer: On Semiconductor; PartNumber: MBD330DWT1G; DatasheetVersion: Rev. 8; PackageVersion: Rev. W, 01/2006; PackageReference: SOT-363-6-419B-02_W; PackageDescription: 6-Pin Small Outline Transistor, Body 2 x 1.25 mm, Pitch 0.65 mm; Supplier 1: Farnell; Supplier Part Number 1: 1150383; Supplier 2: Newark; Supplier Part Number 2: 45J0772; Supplier 3: Mouser; Supplier Part Number 3: 863-MBD330DWT1G; Configuration: Dual; Packing: Tape and Reel; RoHS: TRUE; Mounting Technology: Surface Mount; ComponentLink1Description: Manufacturer URL; ComponentLink1URL: http://www.onsemi.com/; ComponentLink2Description: Datasheet; ComponentLink2URL: http://www.onsemi.cn/pub_link/Collateral/MBD110DWT1-D.PDF; ComponentLink3Description: Package Specification; ComponentLink3URL: http://www.onsemi.com/pub_link/Collateral/NTJD4001N-D.PDF
footprint ONSC-SOT-363-6-419B-02_W_V (SOT23, 6-Leads, Body 2x1.25mm, Pitch 0.65mm)
part A pins: 1 A2, 6 K2
part B pins: 3 K1, 4 A1
part C pins: 2 NC, 5 NC

## MBD701
designator D?
Silicon Hot-Carrier Diode, Schottky Barrier Diode, 2-Pin TO-92, Bulk Box; Manufacturer: On Semiconductor; PartNumber: MBD701; Configuration: Single; DatasheetVersion: Rev. 6; PackageVersion: Rev. L, 04/1998; PackageReference: TO-92-2-182-06; PackageDescription: 2-Pin Transistor Outline, Body 4.825 x 3.685 mm, Pitch 2.54 mm; Supplier 1: Digi-Key; Supplier Part Number 1: MBD701OS-ND; Supplier 2: Mouser; Supplier Part Number 2: 863-MBD701; Packing: Bulk Box; RoHS: FALSE; Mounting Technology: Through Hole; ComponentLink1Description: Manufacturer URL; ComponentLink1URL: http://www.onsemi.com/; ComponentLink2Description: Datasheet; ComponentLink2URL: http://www.onsemi.cn/pub_link/Collateral/MBD701-D.PDF; ComponentLink3Description: Package Specification; ComponentLink3URL: http://www.onsemi.com/pub_link/Collateral/182-06.PDF
footprint ONSC-TO-92-2-182-06 (TO, 2-Leads, Body Dia 4.69mm, Pitch 2.54mm)
pins: 1 A, 2 K

## MBD701G
designator D?
Silicon Hot-Carrier Diode, Schottky Barrier Diode, 2-Pin TO-92, Pb-Free, Bulk Box; Manufacturer: On Semiconductor; PartNumber: MBD701G; Configuration: Single; DatasheetVersion: Rev. 6; PackageVersion: Rev. L, 04/1998; PackageReference: TO-92-2-182-06; PackageDescription: 2-Pin Transistor Outline, Body 4.825 x 3.685 mm, Pitch 2.54 mm; Supplier 1: Digi-Key; Supplier Part Number 1: MBD701GOS-ND; Supplier 2: Mouser; Supplier Part Number 2: 863-MBD701G; Packing: Bulk Box; RoHS: TRUE; Mounting Technology: Through Hole; ComponentLink1Description: Manufacturer URL; ComponentLink1URL: http://www.onsemi.com/; ComponentLink2Description: Datasheet; ComponentLink2URL: http://www.onsemi.cn/pub_link/Collateral/MBD701-D.PDF; ComponentLink3Description: Package Specification; ComponentLink3URL: http://www.onsemi.com/pub_link/Collateral/182-06.PDF
footprint ONSC-TO-92-2-182-06 (TO, 2-Leads, Body Dia 4.69mm, Pitch 2.54mm)
pins: 1 A, 2 K

## MBD770DWT1G
designator D?
Schottky Barrier Diodes, 6-Pin SOT-363, Pb-Free, Tape and Reel; Manufacturer: On Semiconductor; PartNumber: MBD770DWT1G; Configuration: Dual; IFSM Max (A): 1; DatasheetVersion: Rev. 1; PackageVersion: Rev. W, 01/2006; PackageReference: SOT-363-6-419B-02_W; PackageDescription: 6-Pin Small Outline Transistor, Body 2 x 1.25 mm, Pitch 0.65 mm; Supplier 1: Newark; Supplier Part Number 1: 41K9969; Supplier 2: Mouser; Supplier Part Number 2: 863-MBD770DWT1G; Packing: Tape and Reel; RoHS: TRUE; Mounting Technology: Surface Mount; ComponentLink1Description: Manufacturer URL; ComponentLink1URL: http://www.onsemi.com/; ComponentLink2Description: Datasheet; ComponentLink2URL: http://www.onsemi.cn/pub_link/Collateral/MBD770DW-D.PDF; ComponentLink3Description: Package Specification; ComponentLink3URL: http://www.onsemi.com/pub_link/Collateral/NTJD4001N-D.PDF
footprint ONSC-SOT-363-6-419B-02_W_V (SOT23, 6-Leads, Body 2x1.25mm, Pitch 0.65mm)
part A pins: 1 A2, 6 K2
part B pins: 3 K1, 4 A1
part C pins: 2 NC, 5 NC

## MBR1H100SFT3G
designator D?
Schottky Power Rectifier, 2-Pin SOD-123, Pb-Free, Tape and Reel; Manufacturer: On Semiconductor; PartNumber: MBR1H100SFT3G; Configuration: Single; IFSM Max (A): 50; DatasheetVersion: Rev. 1; PackageVersion: Rev. A; PackageReference: SOD-123FL-2-498-01; PackageDescription: 2-Pin SOD, Body 1.65 x 2.7 mm; Supplier 1: Digi-Key; Supplier Part Number 1: MBR1H100SFT3GOSTR-ND; Supplier 2: Digi-Key; Supplier Part Number 2: MBR1H100SFT3GOSCT-ND; Supplier 3: Digi-Key; Supplier Part Number 3: MBR1H100SFT3GOSDKR-ND; Supplier 4: Newark; Supplier Part Number 4: 15R4284; Supplier 5: Mouser; Supplier Part Number 5: 863-MBR1H100SFT3G; Packing: Tape and Reel; RoHS: TRUE; Mounting Technology: Surface Mount; ComponentLink1Description: Manufacturer URL; ComponentLink1URL: http://www.onsemi.com/; ComponentLink2Description: Datasheet; ComponentLink2URL: http://www.onsemi.cn/pub_link/Collateral/MBR1H100SF-D.PDF; ComponentLink3Description: Package Specification; ComponentLink3URL: http://www.onsemi.cn/pub_link/Collateral/MBR120VLSFT1-D.PDF
footprint ONSC-SOD-123FL-2-498-01_V (SOD, 2-Leads, Body 2.7x1.65mm)
pins: 1 K, 2 A

## MBR2H100SFT3G
designator D?
Schottky Power Rectifier, 2-Pin SOD-123, Pb-Free, Tape and Reel; Manufacturer: On Semiconductor; PartNumber: MBR2H100SFT3G; Configuration: Single; IFSM Max (A): 50; DatasheetVersion: Rev. 1; PackageVersion: Rev. A; PackageReference: SOD-123FL-2-498-01; PackageDescription: 2-Pin SOD, Body 1.65 x 2.7 mm; Supplier 1: Digi-Key; Supplier Part Number 1: MBR2H100SFT3GOSTR-ND; Supplier 2: Digi-Key; Supplier Part Number 2: MBR2H100SFT3GOSCT-ND; Supplier 3: Digi-Key; Supplier Part Number 3: MBR2H100SFT3GOSDKR-ND; Supplier 4: Newark; Supplier Part Number 4: 15R4285; Supplier 5: Mouser; Supplier Part Number 5: 863-MBR2H100SFT3G; Packing: Tape and Reel; RoHS: TRUE; Mounting Technology: Surface Mount; ComponentLink1Description: Manufacturer URL; ComponentLink1URL: http://www.onsemi.com/; ComponentLink2Description: Datasheet; ComponentLink2URL: http://www.onsemi.cn/pub_link/Collateral/MBR2H100SF-D.PDF; ComponentLink3Description: Package Specification; ComponentLink3URL: http://www.onsemi.cn/pub_link/Collateral/MBR120VLSFT1-D.PDF
footprint ONSC-SOD-123FL-2-498-01_V (SOD, 2-Leads, Body 2.7x1.65mm)
pins: 1 K, 2 A

## MBR10L60CTG
designator D?
SWITCHMODE(TM) Power Rectifier, 60 V, 10 A, 3-Pin TO-220, Pb-Free, Tube; Manufacturer: On Semiconductor; PartNumber: MBR10L60CTG; Configuration: Common Cathode; IFSM Max (A): 200; DatasheetVersion: Rev. 0; PackageVersion: Rev. AF; PackageReference: TO-220-3-221A-09_AF; PackageDescription: 3-Pin Flange Mount, Vertical Straight Lead, Body 9.97 x 4.445 mm, Pitch 2.54 mm; Supplier 1: Digi-Key; Supplier Part Number 1: MBR10L60CTG-ND; Supplier 2: Mouser; Supplier Part Number 2: 863-MBR10L60CTG; Packing: Tube; RoHS: TRUE; Mounting Technology: Through Hole; ComponentLink1Description: Manufacturer URL; ComponentLink1URL: http://www.onsemi.com/; ComponentLink2Description: Datasheet; ComponentLink2URL: http://www.onsemi.cn/pub_link/Collateral/MBR10L60CT-D.PDF; ComponentLink3Description: Package Specification; ComponentLink3URL: http://www.onsemi.cn/pub_link/Collateral/MCR8S-D.PDF
footprint ONSC-TO-220-3-221A-09_AF (FM, 3-Leads, Body 10.3x4.85mm, Pitch 2.54mm)
pins: 1 A1, 2 K, 3 A2

## MBR20H100CTG
designator D?
SWITCHMODE(TM) Power Rectifier, 100 V, 20 A, 3-Pin TO-220, Pb-Free, Tube; Manufacturer: On Semiconductor; PartNumber: MBR20H100CTG; Configuration: Common Cathode; IFSM Max (A): 250; DatasheetVersion: Rev. 11; PackageVersion: Rev. AG, 09/2011; PackageReference: TO-220-3-221A-09; PackageDescription: 3-Pin Flange Mount, Vertical Straight Lead, Body 9.97 x 4.445 mm, Pitch 2.54 mm; Supplier 1: Digi-Key; Supplier Part Number 1: MBR20H100CTGOS-ND; Supplier 2: Newark; Supplier Part Number 2: 61K0797; Supplier 3: Mouser; Supplier Part Number 3: 863-MBR20H100CTG; Packing: Tube; RoHS: TRUE; Mounting Technology: Through Hole; ComponentLink1Description: Manufacturer URL; ComponentLink1URL: http://www.onsemi.com/; ComponentLink2Description: Datasheet; ComponentLink2URL: http://www.onsemi.cn/pub_link/Collateral/MBR20H100CT-D.PDF; ComponentLink3Description: Package Specification; ComponentLink3URL: http://www.onsemi.com/pub_link/Collateral/221A-09.PDF
footprint ONSC-TO-220-3-221A-09 (FM, 3-Leads, Body 10.3x4.85mm, Pitch 2.54mm)
pins: 1 A1, 2 K, 3 A2

## MBR20H150CTG
designator D?
SWITCHMODE(TM) Power Rectifier, 150 V, 20 A, 3-Pin TO-220, Pb-Free, Tube; Manufacturer: On Semiconductor; PartNumber: MBR20H150CTG; Configuration: Common Cathode; IFSM Max (A): 180; DatasheetVersion: Rev. 2; PackageVersion: Rev. AF; PackageReference: TO-220-3-221A-09_AF; PackageDescription: 3-Pin Flange Mount, Vertical Straight Lead, Body 9.97 x 4.445 mm, Pitch 2.54 mm; Supplier 1: Digi-Key; Supplier Part Number 1: MBR20H150CTGOS-ND; Supplier 2: Farnell; Supplier Part Number 2: 1640044; Supplier 3: Newark; Supplier Part Number 3: 75M4785; Supplier 4: Mouser; Supplier Part Number 4: 863-MBR20H150CTG; Packing: Tube; RoHS: TRUE; Mounting Technology: Through Hole; ComponentLink1Description: Manufacturer URL; ComponentLink1URL: http://www.onsemi.com/; ComponentLink2Description: Datasheet; ComponentLink2URL: http://www.onsemi.cn/pub_link/Collateral/MBRF20H150C-D.PDF; ComponentLink3Description: Package Specification; ComponentLink3URL: http://www.onsemi.cn/pub_link/Collateral/MCR8S-D.PDF
footprint ONSC-TO-220-3-221A-09_AF (FM, 3-Leads, Body 10.3x4.85mm, Pitch 2.54mm)
pins: 1 A1, 2 K, 3 A2

## MBR20L45CTG
designator D?
SWITCHMODE(TM) Power Rectifier, 45 V, 20 A, 3-Pin TO-220, Pb-Free, Tube; Manufacturer: On Semiconductor; PartNumber: MBR20L45CTG; Configuration: Common Cathode; IFSM Max (A): 180; DatasheetVersion: Rev. 2; PackageVersion: Rev. AF; PackageReference: TO-220-3-221A-09_AF; PackageDescription: 3-Pin Flange Mount, Vertical Straight Lead, Body 9.97 x 4.445 mm, Pitch 2.54 mm; Supplier 1: Digi-Key; Supplier Part Number 1: MBR20L45CTG-ND; Supplier 2: Newark; Supplier Part Number 2: 57M9746; Supplier 3: Mouser; Supplier Part Number 3: 863-MBR20L45CTG; Packing: Tube; RoHS: TRUE; Mounting Technology: Through Hole; ComponentLink1Description: Manufacturer URL; ComponentLink1URL: http://www.onsemi.com/; ComponentLink2Description: Datasheet; ComponentLink2URL: http://www.onsemi.cn/pub_link/Collateral/MBR20L45CT-D.PDF; ComponentLink3Description: Package Specification; ComponentLink3URL: http://www.onsemi.cn/pub_link/Collateral/MCR8S-D.PDF
footprint ONSC-TO-220-3-221A-09_AF (FM, 3-Leads, Body 10.3x4.85mm, Pitch 2.54mm)
pins: 1 A1, 2 K, 3 A2

## MBR20L60CTG
designator D?
SWITCHMODE(TM) Power Rectifier, 60 V, 20 A, 3-Pin TO-220, Pb-Free, Tube; Manufacturer: On Semiconductor; PartNumber: MBR20L60CTG; Configuration: Common Cathode; IFSM Max (A): 240; DatasheetVersion: Rev. 1; PackageVersion: Rev. AG, 09/2011; PackageReference: TO-220-3-221A-09; PackageDescription: 3-Pin Flange Mount, Vertical Straight Lead, Body 9.97 x 4.445 mm, Pitch 2.54 mm; Supplier 1: Digi-Key; Supplier Part Number 1: MBR20L60CTG-ND; Supplier 2: Mouser; Supplier Part Number 2: 863-MBR20L60CTG; Packing: Tube; RoHS: TRUE; Mounting Technology: Through Hole; ComponentLink1Description: Manufacturer URL; ComponentLink1URL: http://www.onsemi.com/; ComponentLink2Description: Datasheet; ComponentLink2URL: http://www.onsemi.cn/pub_link/Collateral/MBR20L60CT-D.PDF; ComponentLink3Description: Package Specification; ComponentLink3URL: http://www.onsemi.com/pub_link/Collateral/221A-09.PDF
footprint ONSC-TO-220-3-221A-09 (FM, 3-Leads, Body 10.3x4.85mm, Pitch 2.54mm)
pins: 1 A1, 2 K, 3 A2

## MBR30H30CTG
designator D?
SWITCHMODE(TM) Power Rectifier, 30 V, 30 A, 3-Pin TO-220, Pb-Free, Tube; Manufacturer: On Semiconductor; PartNumber: MBR30H30CTG; Configuration: Common Cathode; IFSM Max (A): 260; DatasheetVersion: Rev. 5; PackageVersion: Rev. AG, 09/2011; PackageReference: TO-220-3-221A-09; PackageDescription: 3-Pin Flange Mount, Vertical Straight Lead, Body 9.97 x 4.445 mm, Pitch 2.54 mm; Supplier 1: Digi-Key; Supplier Part Number 1: MBR30H30CTG-ND; Supplier 2: Newark; Supplier Part Number 2: 57M9747; Supplier 3: Mouser; Supplier Part Number 3: 863-MBR30H30CTG; Packing: Tube; RoHS: TRUE; Mounting Technology: Through Hole; ComponentLink1Description: Manufacturer URL; ComponentLink1URL: http://www.onsemi.com/; ComponentLink2Description: Datasheet; ComponentLink2URL: http://www.onsemi.cn/pub_link/Collateral/MBRB30H30CT-1-D.PDF; ComponentLink3Description: Package Specification; ComponentLink3URL: http://www.onsemi.com/pub_link/Collateral/221A-09.PDF
footprint ONSC-TO-220-3-221A-09 (FM, 3-Leads, Body 10.3x4.85mm, Pitch 2.54mm)
pins: 1 A1, 2 K, 3 A2

## MBR30H60CTG
designator D?
SWITCHMODE(TM) Power Rectifier, 60 V, 30 A, 3-Pin TO-220, Pb-Free, Tube; Manufacturer: On Semiconductor; PartNumber: MBR30H60CTG; Configuration: Common Cathode; IFSM Max (A): 260; DatasheetVersion: Rev. 10; PackageVersion: Rev. AG, 09/2011; PackageReference: TO-220-3-221A-09; PackageDescription: 3-Pin Flange Mount, Vertical Straight Lead, Body 9.97 x 4.445 mm, Pitch 2.54 mm; Supplier 1: Digi-Key; Supplier Part Number 1: MBR30H60CTGOS-ND; Supplier 2: Newark; Supplier Part Number 2: 27M2471; Supplier 3: Mouser; Supplier Part Number 3: 863-MBR30H60CTG; Packing: Tube; RoHS: TRUE; Mounting Technology: Through Hole; ComponentLink1Description: Manufacturer URL; ComponentLink1URL: http://www.onsemi.com/; ComponentLink2Description: Datasheet; ComponentLink2URL: http://www.onsemi.cn/pub_link/Collateral/MBRB30H60CT-D.PDF; ComponentLink3Description: Package Specification; ComponentLink3URL: http://www.onsemi.com/pub_link/Collateral/221A-09.PDF
footprint ONSC-TO-220-3-221A-09 (FM, 3-Leads, Body 10.3x4.85mm, Pitch 2.54mm)
pins: 1 A1, 2 K, 3 A2

## MBR30H100CT
designator D?
SWITCHMODE(TM) Power Rectifier, 100 V, 30 A, 3-Pin TO-220, Tube; Manufacturer: On Semiconductor; PartNumber: MBR30H100CT; Configuration: Common Cathode; IFSM Max (A): 250; DatasheetVersion: Rev. 4; PackageVersion: Rev. AF; PackageReference: TO-220-3-221A-09_AF; PackageDescription: 3-Pin Flange Mount, Vertical Straight Lead, Body 9.97 x 4.445 mm, Pitch 2.54 mm; Supplier 1: Digi-Key; Supplier Part Number 1: MBR30H100CT-ND; Packing: Tube; RoHS: FALSE; Mounting Technology: Through Hole; ComponentLink1Description: Manufacturer URL; ComponentLink1URL: http://www.onsemi.com/; ComponentLink2Description: Datasheet; ComponentLink2URL: http://www.onsemi.cn/pub_link/Collateral/MBR30H100CT-D.PDF; ComponentLink3Description: Package Specification; ComponentLink3URL: http://www.onsemi.cn/pub_link/Collateral/MCR8S-D.PDF
footprint ONSC-TO-220-3-221A-09_AF (FM, 3-Leads, Body 10.3x4.85mm, Pitch 2.54mm)
pins: 1 A1, 2 K, 3 A2

## MBR30H100CTG
designator D?
SWITCHMODE(TM) Power Rectifier, 100 V, 30 A, 3-Pin TO-220, Pb-Free, Tube; Manufacturer: On Semiconductor; PartNumber: MBR30H100CTG; Configuration: Common Cathode; IFSM Max (A): 250; DatasheetVersion: Rev. 4; PackageVersion: Rev. AF; PackageReference: TO-220-3-221A-09_AF; PackageDescription: 3-Pin Flange Mount, Vertical Straight Lead, Body 9.97 x 4.445 mm, Pitch 2.54 mm; Supplier 1: Digi-Key; Supplier Part Number 1: MBR30H100CTGOS-ND; Supplier 2: Farnell; Supplier Part Number 2: 1431060; Supplier 3: Newark; Supplier Part Number 3: 61K0799; Supplier 4: Mouser; Supplier Part Number 4: 863-MBR30H100CTG; Packing: Tube; RoHS: TRUE; Mounting Technology: Through Hole; ComponentLink1Description: Manufacturer URL; ComponentLink1URL: http://www.onsemi.com/; ComponentLink2Description: Datasheet; ComponentLink2URL: http://www.onsemi.cn/pub_link/Collateral/MBR30H100CT-D.PDF; ComponentLink3Description: Package Specification; ComponentLink3URL: http://www.onsemi.cn/pub_link/Collateral/MCR8S-D.PDF
footprint ONSC-TO-220-3-221A-09_AF (FM, 3-Leads, Body 10.3x4.85mm, Pitch 2.54mm)
pins: 1 A1, 2 K, 3 A2

## MBR30H150CTG
designator D?
SWITCHMODE(TM) Power Rectifier, 150 V, 30 A, 3-Pin TO-220, Pb-Free, Tube; Manufacturer: On Semiconductor; PartNumber: MBR30H150CTG; Configuration: Common Cathode; IFSM Max (A): 200; DatasheetVersion: Rev. 1; PackageVersion: Rev. AF; PackageReference: TO-220-3-221A-09_AF; PackageDescription: 3-Pin Flange Mount, Vertical Straight Lead, Body 9.97 x 4.445 mm, Pitch 2.54 mm; Supplier 1: Digi-Key; Supplier Part Number 1: MBR30H150CTGOS-ND; Supplier 2: Farnell; Supplier Part Number 2: 1640046; Supplier 3: Newark; Supplier Part Number 3: 75M4786; Supplier 4: Mouser; Supplier Part Number 4: 863-MBR30H150CTG; Packing: Tube; RoHS: TRUE; Mounting Technology: Through Hole; ComponentLink1Description: Manufacturer URL; ComponentLink1URL: http://www.onsemi.com/; ComponentLink2Description: Datasheet; ComponentLink2URL: http://www.onsemi.cn/pub_link/Collateral/MBRF30H150C-D.PDF; ComponentLink3Description: Package Specification; ComponentLink3URL: http://www.onsemi.cn/pub_link/Collateral/MCR8S-D.PDF
footprint ONSC-TO-220-3-221A-09_AF (FM, 3-Leads, Body 10.3x4.85mm, Pitch 2.54mm)
pins: 1 A1, 2 K, 3 A2

## MBR30L45CTG
designator D?
SWITCHMODE(TM) Power Rectifier, 45 V, 30 A, 3-Pin TO-220, Pb-Free, Tube; Manufacturer: On Semiconductor; PartNumber: MBR30L45CTG; Configuration: Common Cathode; IFSM Max (A): 190; DatasheetVersion: Rev. 2; PackageVersion: Rev. AF; PackageReference: TO-220-3-221A-09_AF; PackageDescription: 3-Pin Flange Mount, Vertical Straight Lead, Body 9.97 x 4.445 mm, Pitch 2.54 mm; Supplier 1: Digi-Key; Supplier Part Number 1: MBR30L45CTG-ND; Supplier 2: Mouser; Supplier Part Number 2: 863-MBR30L45CTG; Packing: Tube; RoHS: TRUE; Mounting Technology: Through Hole; ComponentLink1Description: Manufacturer URL; ComponentLink1URL: http://www.onsemi.com/; ComponentLink2Description: Datasheet; ComponentLink2URL: http://www.onsemi.cn/pub_link/Collateral/MBR30L45CT-D.PDF; ComponentLink3Description: Package Specification; ComponentLink3URL: http://www.onsemi.cn/pub_link/Collateral/MCR8S-D.PDF
footprint ONSC-TO-220-3-221A-09_AF (FM, 3-Leads, Body 10.3x4.85mm, Pitch 2.54mm)
pins: 1 A1, 2 K, 3 A2